# Altium schematic symbol library Switch SPDT_chip.Schlib: 1 symbol
Pins are listed as number, name and electrical type; pins without a type are passive.

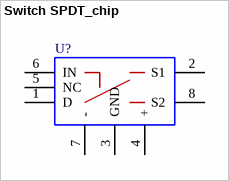
[diagram p0: symbol Switch SPDT_chip]

## Switch SPDT_chip
designator U?
Switch, SPDT
pins: 1 D, 2 S1, 3 GND, 4 +, 5 NC, 6 IN, 7 -, 8 S2